# Altium integrated library ST Memory EEPROM Flash.IntLib: 1183 symbols (part 14 of 27)
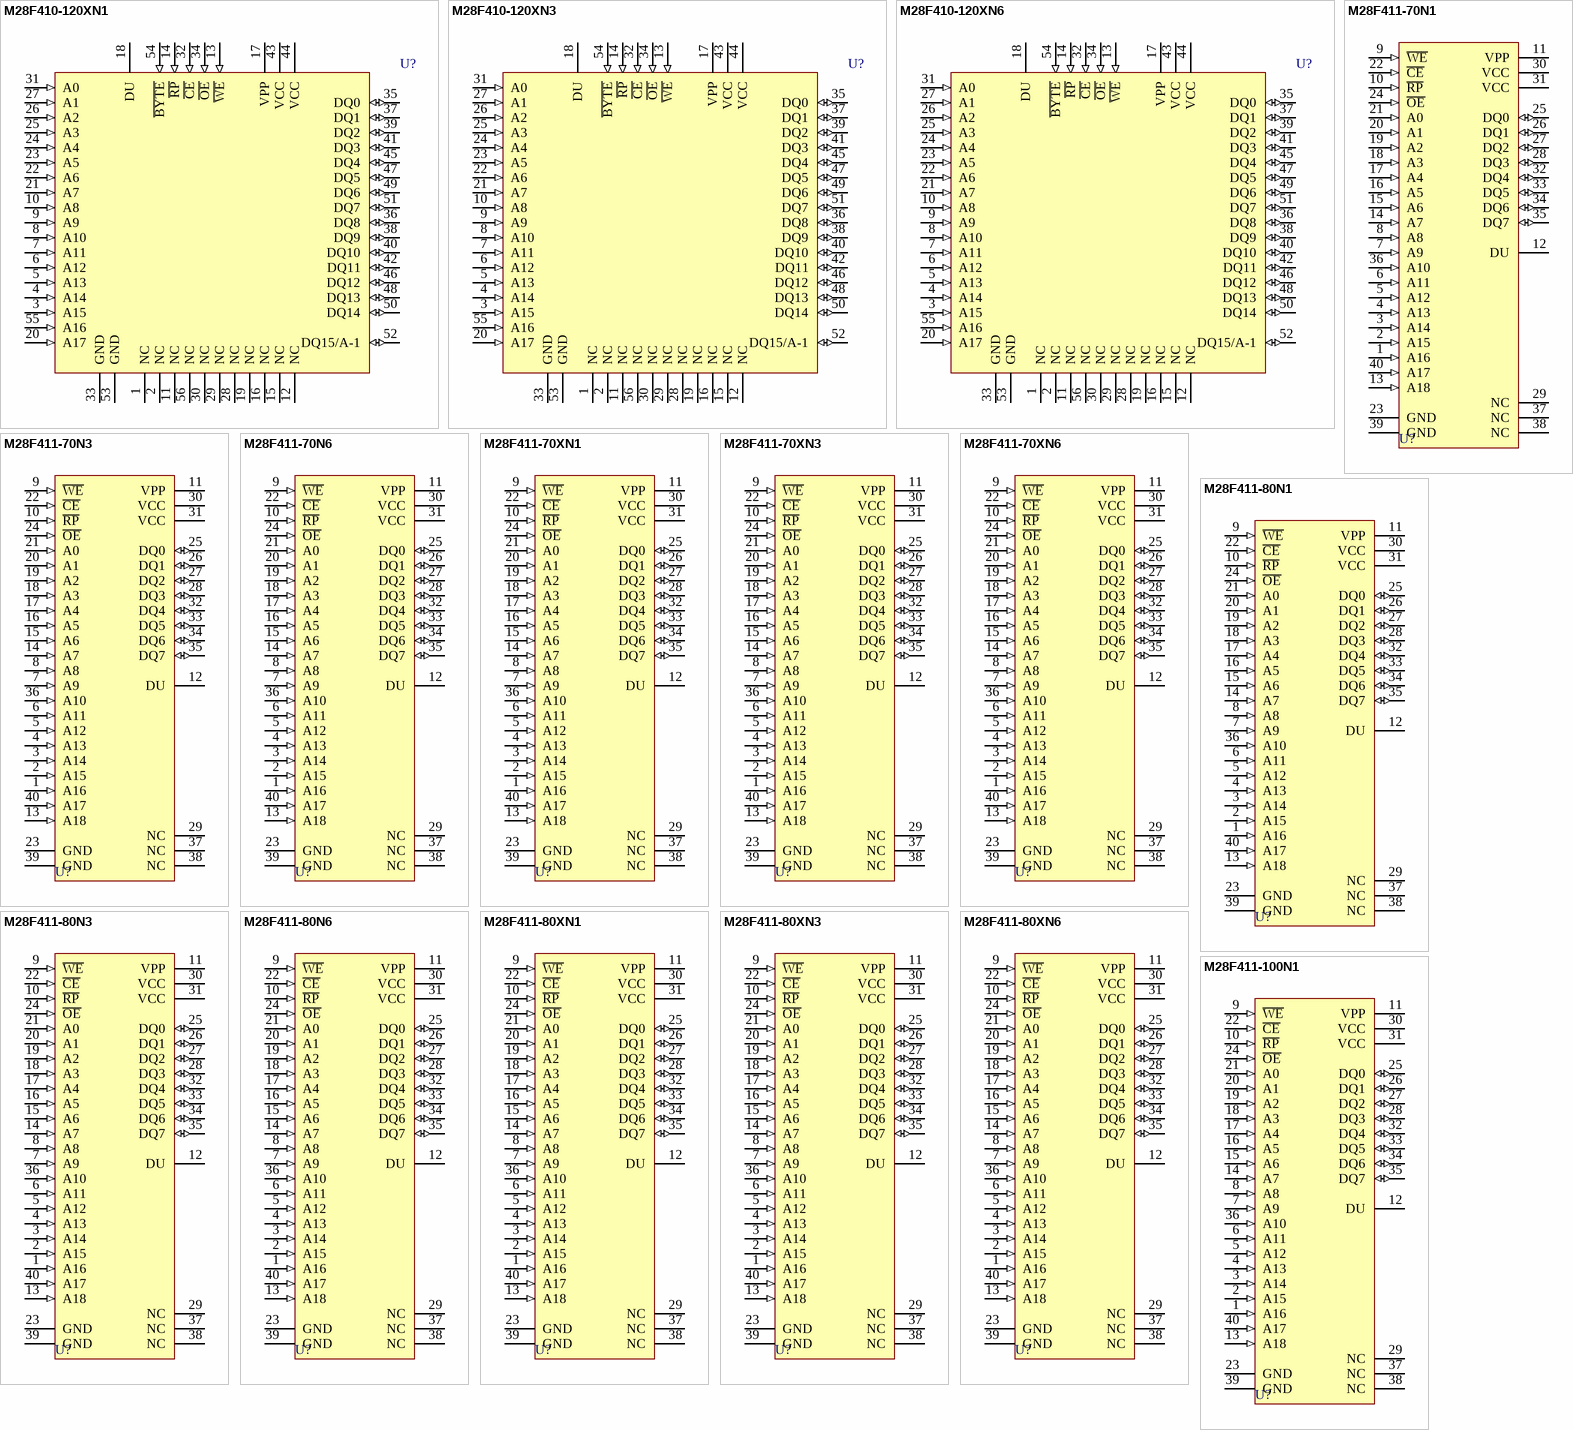
[diagram p94: symbols M28F410-120XN1 to M28F411-100N1]

## M28F411-70XN1
designator U?
4 Mbit (x8, Block Erase) Flash Memory; Note: Do Not Use pin number 12 (DU).; Published: 24-Aug-2001; LatestRevisionDate: 6-Jun-2005; LatestRevisionNote: Stylized 3D Model Added.; DatasheetDocument: Oct-1995; PackageDocument: Jul-1998; PackageReference: TSOP40A; Publisher: Altium Limited; Code_JEDEC: MO-142-CD; ComponentLink1Description: Manufacturer Link; ComponentLink1URL: http://www.st.com/
footprint TSOP40A (Shrink Small Outline, Plastic, Thin; 40 Leads; Body Width 18.4 mm; Pitch 0.5 mm)
3D model TSOP40A (Shrink Small Outline, Plastic, Thin; 40 Leads; Body Width 18.4 mm; Pitch 0.5 mm)
pins: 1 A16 (in), 2 A15 (in), 3 A14 (in), 4 A13 (in), 5 A12 (in), 6 A11 (in), 7 A9 (in), 8 A8 (in), 9 ~{WE} (in), 10 ~{RP} (in), 11 VPP (power), 12 DU, 13 A18 (in), 14 A7 (in), 15 A6 (in), 16 A5 (in), 17 A4 (in), 18 A3 (in), 19 A2 (in), 20 A1 (in), 21 A0 (in), 22 ~{CE} (in), 23 GND (power), 24 ~{OE} (in), 25 DQ0 (io), 26 DQ1 (io), 27 DQ2 (io), 28 DQ3 (io), 29 NC, 30 VCC (power), 31 VCC (power), 32 DQ4 (io), 33 DQ5 (io), 34 DQ6 (io), 35 DQ7 (io), 36 A10 (in), 37 NC, 38 NC, 39 GND (power), 40 A17 (in)

## M28F411-70XN3
designator U?
4 Mbit (x8, Block Erase) Flash Memory; Note: Do Not Use pin number 12 (DU).; Published: 24-Aug-2001; LatestRevisionDate: 6-Jun-2005; LatestRevisionNote: Stylized 3D Model Added.; DatasheetDocument: Oct-1995; PackageDocument: Jul-1998; PackageReference: TSOP40A; Publisher: Altium Limited; Code_JEDEC: MO-142-CD; ComponentLink1Description: Manufacturer Link; ComponentLink1URL: http://www.st.com/
footprint TSOP40A (Shrink Small Outline, Plastic, Thin; 40 Leads; Body Width 18.4 mm; Pitch 0.5 mm)
3D model TSOP40A (Shrink Small Outline, Plastic, Thin; 40 Leads; Body Width 18.4 mm; Pitch 0.5 mm)
pins: 1 A16 (in), 2 A15 (in), 3 A14 (in), 4 A13 (in), 5 A12 (in), 6 A11 (in), 7 A9 (in), 8 A8 (in), 9 ~{WE} (in), 10 ~{RP} (in), 11 VPP (power), 12 DU, 13 A18 (in), 14 A7 (in), 15 A6 (in), 16 A5 (in), 17 A4 (in), 18 A3 (in), 19 A2 (in), 20 A1 (in), 21 A0 (in), 22 ~{CE} (in), 23 GND (power), 24 ~{OE} (in), 25 DQ0 (io), 26 DQ1 (io), 27 DQ2 (io), 28 DQ3 (io), 29 NC, 30 VCC (power), 31 VCC (power), 32 DQ4 (io), 33 DQ5 (io), 34 DQ6 (io), 35 DQ7 (io), 36 A10 (in), 37 NC, 38 NC, 39 GND (power), 40 A17 (in)

## M28F411-70XN6
designator U?
4 Mbit (x8, Block Erase) Flash Memory; Note: Do Not Use pin number 12 (DU).; Published: 24-Aug-2001; LatestRevisionDate: 6-Jun-2005; LatestRevisionNote: Stylized 3D Model Added.; DatasheetDocument: Oct-1995; PackageDocument: Jul-1998; PackageReference: TSOP40A; Publisher: Altium Limited; Code_JEDEC: MO-142-CD; ComponentLink1Description: Manufacturer Link; ComponentLink1URL: http://www.st.com/
footprint TSOP40A (Shrink Small Outline, Plastic, Thin; 40 Leads; Body Width 18.4 mm; Pitch 0.5 mm)
3D model TSOP40A (Shrink Small Outline, Plastic, Thin; 40 Leads; Body Width 18.4 mm; Pitch 0.5 mm)
pins: 1 A16 (in), 2 A15 (in), 3 A14 (in), 4 A13 (in), 5 A12 (in), 6 A11 (in), 7 A9 (in), 8 A8 (in), 9 ~{WE} (in), 10 ~{RP} (in), 11 VPP (power), 12 DU, 13 A18 (in), 14 A7 (in), 15 A6 (in), 16 A5 (in), 17 A4 (in), 18 A3 (in), 19 A2 (in), 20 A1 (in), 21 A0 (in), 22 ~{CE} (in), 23 GND (power), 24 ~{OE} (in), 25 DQ0 (io), 26 DQ1 (io), 27 DQ2 (io), 28 DQ3 (io), 29 NC, 30 VCC (power), 31 VCC (power), 32 DQ4 (io), 33 DQ5 (io), 34 DQ6 (io), 35 DQ7 (io), 36 A10 (in), 37 NC, 38 NC, 39 GND (power), 40 A17 (in)

## M28F411-80N1
designator U?
4 Mbit (x8, Block Erase) Flash Memory; Note: Do Not Use pin number 12 (DU).; Published: 24-Aug-2001; LatestRevisionDate: 6-Jun-2005; LatestRevisionNote: Stylized 3D Model Added.; DatasheetDocument: Oct-1995; PackageDocument: Jul-1998; PackageReference: TSOP40A; Publisher: Altium Limited; Code_JEDEC: MO-142-CD; ComponentLink1Description: Manufacturer Link; ComponentLink1URL: http://www.st.com/
footprint TSOP40A (Shrink Small Outline, Plastic, Thin; 40 Leads; Body Width 18.4 mm; Pitch 0.5 mm)
3D model TSOP40A (Shrink Small Outline, Plastic, Thin; 40 Leads; Body Width 18.4 mm; Pitch 0.5 mm)
pins: 1 A16 (in), 2 A15 (in), 3 A14 (in), 4 A13 (in), 5 A12 (in), 6 A11 (in), 7 A9 (in), 8 A8 (in), 9 ~{WE} (in), 10 ~{RP} (in), 11 VPP (power), 12 DU, 13 A18 (in), 14 A7 (in), 15 A6 (in), 16 A5 (in), 17 A4 (in), 18 A3 (in), 19 A2 (in), 20 A1 (in), 21 A0 (in), 22 ~{CE} (in), 23 GND (power), 24 ~{OE} (in), 25 DQ0 (io), 26 DQ1 (io), 27 DQ2 (io), 28 DQ3 (io), 29 NC, 30 VCC (power), 31 VCC (power), 32 DQ4 (io), 33 DQ5 (io), 34 DQ6 (io), 35 DQ7 (io), 36 A10 (in), 37 NC, 38 NC, 39 GND (power), 40 A17 (in)

## M28F411-80N3
designator U?
4 Mbit (x8, Block Erase) Flash Memory; Note: Do Not Use pin number 12 (DU).; Published: 24-Aug-2001; LatestRevisionDate: 6-Jun-2005; LatestRevisionNote: Stylized 3D Model Added.; DatasheetDocument: Oct-1995; PackageDocument: Jul-1998; PackageReference: TSOP40A; Publisher: Altium Limited; Code_JEDEC: MO-142-CD; ComponentLink1Description: Manufacturer Link; ComponentLink1URL: http://www.st.com/
footprint TSOP40A (Shrink Small Outline, Plastic, Thin; 40 Leads; Body Width 18.4 mm; Pitch 0.5 mm)
3D model TSOP40A (Shrink Small Outline, Plastic, Thin; 40 Leads; Body Width 18.4 mm; Pitch 0.5 mm)
pins: 1 A16 (in), 2 A15 (in), 3 A14 (in), 4 A13 (in), 5 A12 (in), 6 A11 (in), 7 A9 (in), 8 A8 (in), 9 ~{WE} (in), 10 ~{RP} (in), 11 VPP (power), 12 DU, 13 A18 (in), 14 A7 (in), 15 A6 (in), 16 A5 (in), 17 A4 (in), 18 A3 (in), 19 A2 (in), 20 A1 (in), 21 A0 (in), 22 ~{CE} (in), 23 GND (power), 24 ~{OE} (in), 25 DQ0 (io), 26 DQ1 (io), 27 DQ2 (io), 28 DQ3 (io), 29 NC, 30 VCC (power), 31 VCC (power), 32 DQ4 (io), 33 DQ5 (io), 34 DQ6 (io), 35 DQ7 (io), 36 A10 (in), 37 NC, 38 NC, 39 GND (power), 40 A17 (in)

## M28F411-80N6
designator U?
4 Mbit (x8, Block Erase) Flash Memory; Note: Do Not Use pin number 12 (DU).; Published: 24-Aug-2001; LatestRevisionDate: 6-Jun-2005; LatestRevisionNote: Stylized 3D Model Added.; DatasheetDocument: Oct-1995; PackageDocument: Jul-1998; PackageReference: TSOP40A; Publisher: Altium Limited; Code_JEDEC: MO-142-CD; ComponentLink1Description: Manufacturer Link; ComponentLink1URL: http://www.st.com/
footprint TSOP40A (Shrink Small Outline, Plastic, Thin; 40 Leads; Body Width 18.4 mm; Pitch 0.5 mm)
3D model TSOP40A (Shrink Small Outline, Plastic, Thin; 40 Leads; Body Width 18.4 mm; Pitch 0.5 mm)
pins: 1 A16 (in), 2 A15 (in), 3 A14 (in), 4 A13 (in), 5 A12 (in), 6 A11 (in), 7 A9 (in), 8 A8 (in), 9 ~{WE} (in), 10 ~{RP} (in), 11 VPP (power), 12 DU, 13 A18 (in), 14 A7 (in), 15 A6 (in), 16 A5 (in), 17 A4 (in), 18 A3 (in), 19 A2 (in), 20 A1 (in), 21 A0 (in), 22 ~{CE} (in), 23 GND (power), 24 ~{OE} (in), 25 DQ0 (io), 26 DQ1 (io), 27 DQ2 (io), 28 DQ3 (io), 29 NC, 30 VCC (power), 31 VCC (power), 32 DQ4 (io), 33 DQ5 (io), 34 DQ6 (io), 35 DQ7 (io), 36 A10 (in), 37 NC, 38 NC, 39 GND (power), 40 A17 (in)

## M28F411-80XN1
designator U?
4 Mbit (x8, Block Erase) Flash Memory; Note: Do Not Use pin number 12 (DU).; Published: 24-Aug-2001; LatestRevisionDate: 6-Jun-2005; LatestRevisionNote: Stylized 3D Model Added.; DatasheetDocument: Oct-1995; PackageDocument: Jul-1998; PackageReference: TSOP40A; Publisher: Altium Limited; Code_JEDEC: MO-142-CD; ComponentLink1Description: Manufacturer Link; ComponentLink1URL: http://www.st.com/
footprint TSOP40A (Shrink Small Outline, Plastic, Thin; 40 Leads; Body Width 18.4 mm; Pitch 0.5 mm)
3D model TSOP40A (Shrink Small Outline, Plastic, Thin; 40 Leads; Body Width 18.4 mm; Pitch 0.5 mm)
pins: 1 A16 (in), 2 A15 (in), 3 A14 (in), 4 A13 (in), 5 A12 (in), 6 A11 (in), 7 A9 (in), 8 A8 (in), 9 ~{WE} (in), 10 ~{RP} (in), 11 VPP (power), 12 DU, 13 A18 (in), 14 A7 (in), 15 A6 (in), 16 A5 (in), 17 A4 (in), 18 A3 (in), 19 A2 (in), 20 A1 (in), 21 A0 (in), 22 ~{CE} (in), 23 GND (power), 24 ~{OE} (in), 25 DQ0 (io), 26 DQ1 (io), 27 DQ2 (io), 28 DQ3 (io), 29 NC, 30 VCC (power), 31 VCC (power), 32 DQ4 (io), 33 DQ5 (io), 34 DQ6 (io), 35 DQ7 (io), 36 A10 (in), 37 NC, 38 NC, 39 GND (power), 40 A17 (in)

## M28F411-80XN3
designator U?
4 Mbit (x8, Block Erase) Flash Memory; Note: Do Not Use pin number 12 (DU).; Published: 24-Aug-2001; LatestRevisionDate: 6-Jun-2005; LatestRevisionNote: Stylized 3D Model Added.; DatasheetDocument: Oct-1995; PackageDocument: Jul-1998; PackageReference: TSOP40A; Publisher: Altium Limited; Code_JEDEC: MO-142-CD; ComponentLink1Description: Manufacturer Link; ComponentLink1URL: http://www.st.com/
footprint TSOP40A (Shrink Small Outline, Plastic, Thin; 40 Leads; Body Width 18.4 mm; Pitch 0.5 mm)
3D model TSOP40A (Shrink Small Outline, Plastic, Thin; 40 Leads; Body Width 18.4 mm; Pitch 0.5 mm)
pins: 1 A16 (in), 2 A15 (in), 3 A14 (in), 4 A13 (in), 5 A12 (in), 6 A11 (in), 7 A9 (in), 8 A8 (in), 9 ~{WE} (in), 10 ~{RP} (in), 11 VPP (power), 12 DU, 13 A18 (in), 14 A7 (in), 15 A6 (in), 16 A5 (in), 17 A4 (in), 18 A3 (in), 19 A2 (in), 20 A1 (in), 21 A0 (in), 22 ~{CE} (in), 23 GND (power), 24 ~{OE} (in), 25 DQ0 (io), 26 DQ1 (io), 27 DQ2 (io), 28 DQ3 (io), 29 NC, 30 VCC (power), 31 VCC (power), 32 DQ4 (io), 33 DQ5 (io), 34 DQ6 (io), 35 DQ7 (io), 36 A10 (in), 37 NC, 38 NC, 39 GND (power), 40 A17 (in)

## M28F411-80XN6
designator U?
4 Mbit (x8, Block Erase) Flash Memory; Note: Do Not Use pin number 12 (DU).; Published: 24-Aug-2001; LatestRevisionDate: 6-Jun-2005; LatestRevisionNote: Stylized 3D Model Added.; DatasheetDocument: Oct-1995; PackageDocument: Jul-1998; PackageReference: TSOP40A; Publisher: Altium Limited; Code_JEDEC: MO-142-CD; ComponentLink1Description: Manufacturer Link; ComponentLink1URL: http://www.st.com/
footprint TSOP40A (Shrink Small Outline, Plastic, Thin; 40 Leads; Body Width 18.4 mm; Pitch 0.5 mm)
3D model TSOP40A (Shrink Small Outline, Plastic, Thin; 40 Leads; Body Width 18.4 mm; Pitch 0.5 mm)
pins: 1 A16 (in), 2 A15 (in), 3 A14 (in), 4 A13 (in), 5 A12 (in), 6 A11 (in), 7 A9 (in), 8 A8 (in), 9 ~{WE} (in), 10 ~{RP} (in), 11 VPP (power), 12 DU, 13 A18 (in), 14 A7 (in), 15 A6 (in), 16 A5 (in), 17 A4 (in), 18 A3 (in), 19 A2 (in), 20 A1 (in), 21 A0 (in), 22 ~{CE} (in), 23 GND (power), 24 ~{OE} (in), 25 DQ0 (io), 26 DQ1 (io), 27 DQ2 (io), 28 DQ3 (io), 29 NC, 30 VCC (power), 31 VCC (power), 32 DQ4 (io), 33 DQ5 (io), 34 DQ6 (io), 35 DQ7 (io), 36 A10 (in), 37 NC, 38 NC, 39 GND (power), 40 A17 (in)

## M28F411-100N1
designator U?
4 Mbit (x8, Block Erase) Flash Memory; Note: Do Not Use pin number 12 (DU).; Published: 24-Aug-2001; LatestRevisionDate: 6-Jun-2005; LatestRevisionNote: Stylized 3D Model Added.; DatasheetDocument: Oct-1995; PackageDocument: Jul-1998; PackageReference: TSOP40A; Publisher: Altium Limited; Code_JEDEC: MO-142-CD; ComponentLink1Description: Manufacturer Link; ComponentLink1URL: http://www.st.com/
footprint TSOP40A (Shrink Small Outline, Plastic, Thin; 40 Leads; Body Width 18.4 mm; Pitch 0.5 mm)
3D model TSOP40A (Shrink Small Outline, Plastic, Thin; 40 Leads; Body Width 18.4 mm; Pitch 0.5 mm)
pins: 1 A16 (in), 2 A15 (in), 3 A14 (in), 4 A13 (in), 5 A12 (in), 6 A11 (in), 7 A9 (in), 8 A8 (in), 9 ~{WE} (in), 10 ~{RP} (in), 11 VPP (power), 12 DU, 13 A18 (in), 14 A7 (in), 15 A6 (in), 16 A5 (in), 17 A4 (in), 18 A3 (in), 19 A2 (in), 20 A1 (in), 21 A0 (in), 22 ~{CE} (in), 23 GND (power), 24 ~{OE} (in), 25 DQ0 (io), 26 DQ1 (io), 27 DQ2 (io), 28 DQ3 (io), 29 NC, 30 VCC (power), 31 VCC (power), 32 DQ4 (io), 33 DQ5 (io), 34 DQ6 (io), 35 DQ7 (io), 36 A10 (in), 37 NC, 38 NC, 39 GND (power), 40 A17 (in)

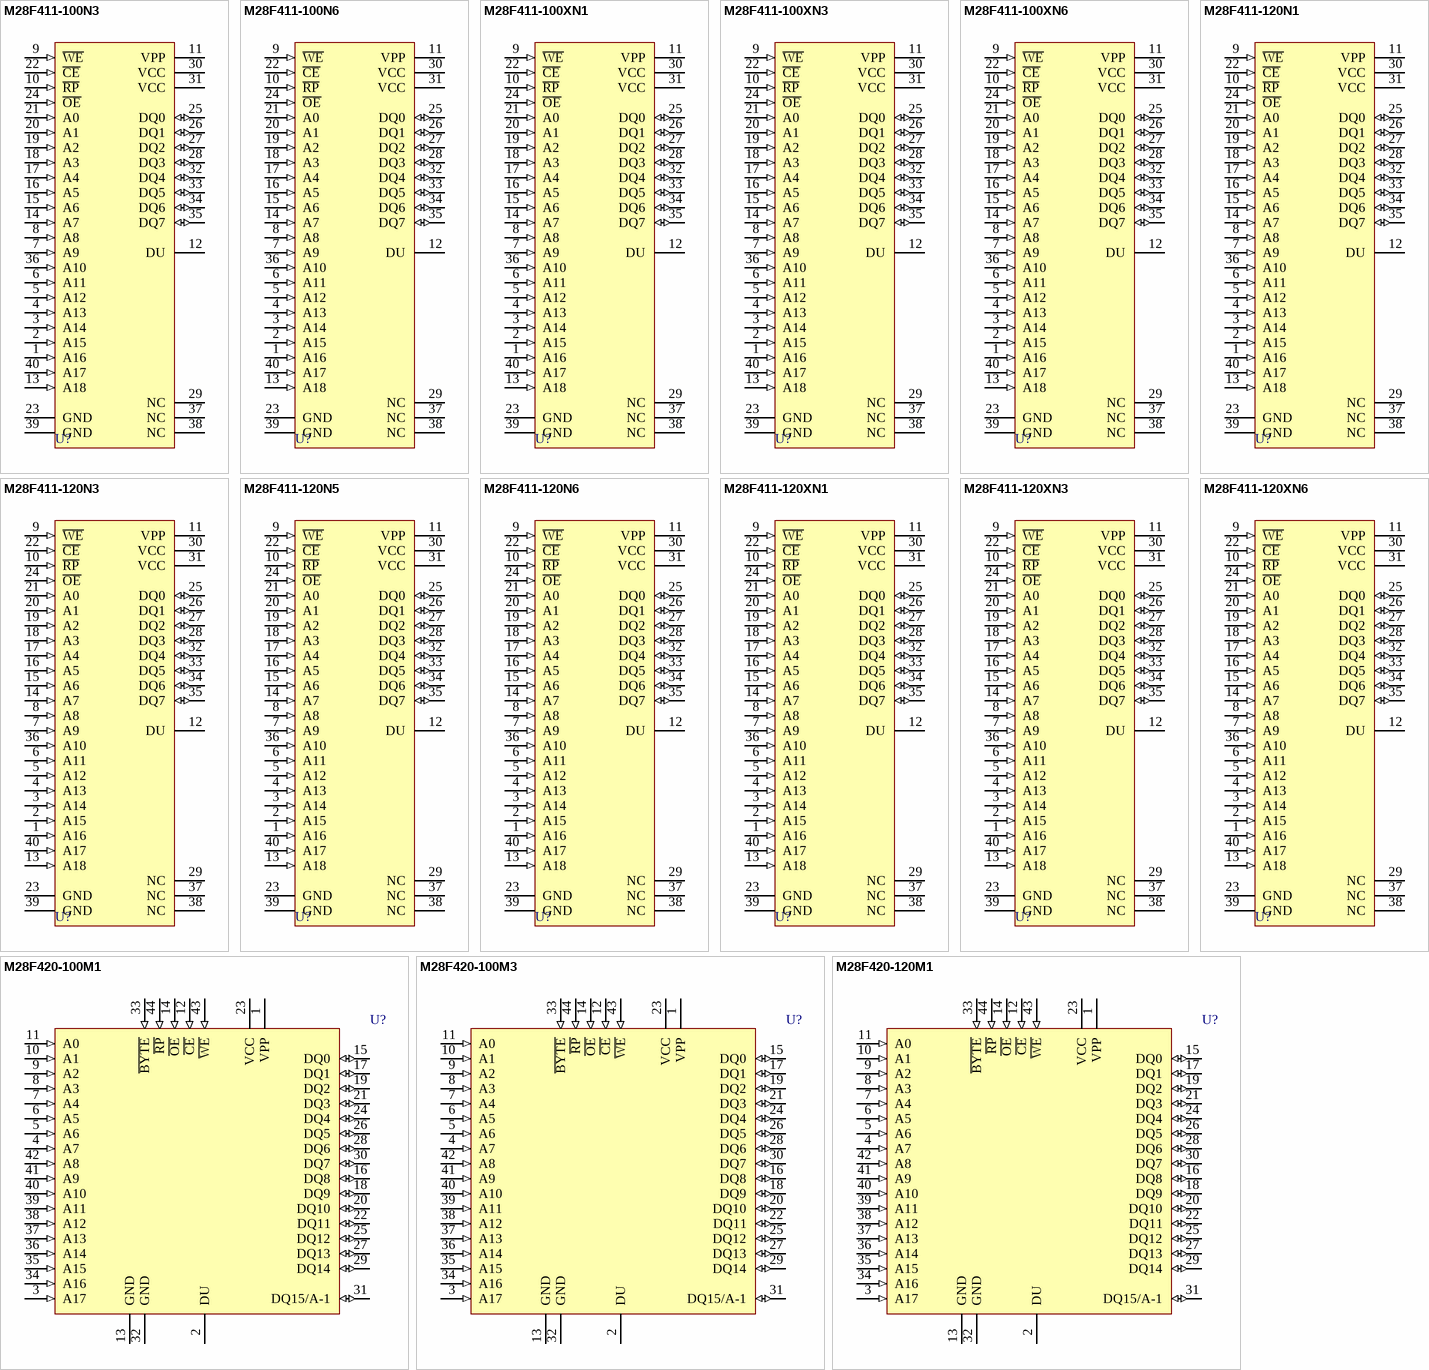
[diagram p38: symbols M28F411-100N3 to M28F420-120M1]

## M28F411-100N3
designator U?
4 Mbit (x8, Block Erase) Flash Memory; Note: Do Not Use pin number 12 (DU).; Published: 24-Aug-2001; LatestRevisionDate: 6-Jun-2005; LatestRevisionNote: Stylized 3D Model Added.; DatasheetDocument: Oct-1995; PackageDocument: Jul-1998; PackageReference: TSOP40A; Publisher: Altium Limited; Code_JEDEC: MO-142-CD; ComponentLink1Description: Manufacturer Link; ComponentLink1URL: http://www.st.com/
footprint TSOP40A (Shrink Small Outline, Plastic, Thin; 40 Leads; Body Width 18.4 mm; Pitch 0.5 mm)
3D model TSOP40A (Shrink Small Outline, Plastic, Thin; 40 Leads; Body Width 18.4 mm; Pitch 0.5 mm)
pins: 1 A16 (in), 2 A15 (in), 3 A14 (in), 4 A13 (in), 5 A12 (in), 6 A11 (in), 7 A9 (in), 8 A8 (in), 9 ~{WE} (in), 10 ~{RP} (in), 11 VPP (power), 12 DU, 13 A18 (in), 14 A7 (in), 15 A6 (in), 16 A5 (in), 17 A4 (in), 18 A3 (in), 19 A2 (in), 20 A1 (in), 21 A0 (in), 22 ~{CE} (in), 23 GND (power), 24 ~{OE} (in), 25 DQ0 (io), 26 DQ1 (io), 27 DQ2 (io), 28 DQ3 (io), 29 NC, 30 VCC (power), 31 VCC (power), 32 DQ4 (io), 33 DQ5 (io), 34 DQ6 (io), 35 DQ7 (io), 36 A10 (in), 37 NC, 38 NC, 39 GND (power), 40 A17 (in)

## M28F411-100N6
designator U?
4 Mbit (x8, Block Erase) Flash Memory; Note: Do Not Use pin number 12 (DU).; Published: 24-Aug-2001; LatestRevisionDate: 6-Jun-2005; LatestRevisionNote: Stylized 3D Model Added.; DatasheetDocument: Oct-1995; PackageDocument: Jul-1998; PackageReference: TSOP40A; Publisher: Altium Limited; Code_JEDEC: MO-142-CD; ComponentLink1Description: Manufacturer Link; ComponentLink1URL: http://www.st.com/
footprint TSOP40A (Shrink Small Outline, Plastic, Thin; 40 Leads; Body Width 18.4 mm; Pitch 0.5 mm)
3D model TSOP40A (Shrink Small Outline, Plastic, Thin; 40 Leads; Body Width 18.4 mm; Pitch 0.5 mm)
pins: 1 A16 (in), 2 A15 (in), 3 A14 (in), 4 A13 (in), 5 A12 (in), 6 A11 (in), 7 A9 (in), 8 A8 (in), 9 ~{WE} (in), 10 ~{RP} (in), 11 VPP (power), 12 DU, 13 A18 (in), 14 A7 (in), 15 A6 (in), 16 A5 (in), 17 A4 (in), 18 A3 (in), 19 A2 (in), 20 A1 (in), 21 A0 (in), 22 ~{CE} (in), 23 GND (power), 24 ~{OE} (in), 25 DQ0 (io), 26 DQ1 (io), 27 DQ2 (io), 28 DQ3 (io), 29 NC, 30 VCC (power), 31 VCC (power), 32 DQ4 (io), 33 DQ5 (io), 34 DQ6 (io), 35 DQ7 (io), 36 A10 (in), 37 NC, 38 NC, 39 GND (power), 40 A17 (in)

## M28F411-100XN1
designator U?
4 Mbit (x8, Block Erase) Flash Memory; Note: Do Not Use pin number 12 (DU).; Published: 24-Aug-2001; LatestRevisionDate: 6-Jun-2005; LatestRevisionNote: Stylized 3D Model Added.; DatasheetDocument: Oct-1995; PackageDocument: Jul-1998; PackageReference: TSOP40A; Publisher: Altium Limited; Code_JEDEC: MO-142-CD; ComponentLink1Description: Manufacturer Link; ComponentLink1URL: http://www.st.com/
footprint TSOP40A (Shrink Small Outline, Plastic, Thin; 40 Leads; Body Width 18.4 mm; Pitch 0.5 mm)
3D model TSOP40A (Shrink Small Outline, Plastic, Thin; 40 Leads; Body Width 18.4 mm; Pitch 0.5 mm)
pins: 1 A16 (in), 2 A15 (in), 3 A14 (in), 4 A13 (in), 5 A12 (in), 6 A11 (in), 7 A9 (in), 8 A8 (in), 9 ~{WE} (in), 10 ~{RP} (in), 11 VPP (power), 12 DU, 13 A18 (in), 14 A7 (in), 15 A6 (in), 16 A5 (in), 17 A4 (in), 18 A3 (in), 19 A2 (in), 20 A1 (in), 21 A0 (in), 22 ~{CE} (in), 23 GND (power), 24 ~{OE} (in), 25 DQ0 (io), 26 DQ1 (io), 27 DQ2 (io), 28 DQ3 (io), 29 NC, 30 VCC (power), 31 VCC (power), 32 DQ4 (io), 33 DQ5 (io), 34 DQ6 (io), 35 DQ7 (io), 36 A10 (in), 37 NC, 38 NC, 39 GND (power), 40 A17 (in)

## M28F411-100XN3
designator U?
4 Mbit (x8, Block Erase) Flash Memory; Note: Do Not Use pin number 12 (DU).; Published: 24-Aug-2001; LatestRevisionDate: 6-Jun-2005; LatestRevisionNote: Stylized 3D Model Added.; DatasheetDocument: Oct-1995; PackageDocument: Jul-1998; PackageReference: TSOP40A; Publisher: Altium Limited; Code_JEDEC: MO-142-CD; ComponentLink1Description: Manufacturer Link; ComponentLink1URL: http://www.st.com/
footprint TSOP40A (Shrink Small Outline, Plastic, Thin; 40 Leads; Body Width 18.4 mm; Pitch 0.5 mm)
3D model TSOP40A (Shrink Small Outline, Plastic, Thin; 40 Leads; Body Width 18.4 mm; Pitch 0.5 mm)
pins: 1 A16 (in), 2 A15 (in), 3 A14 (in), 4 A13 (in), 5 A12 (in), 6 A11 (in), 7 A9 (in), 8 A8 (in), 9 ~{WE} (in), 10 ~{RP} (in), 11 VPP (power), 12 DU, 13 A18 (in), 14 A7 (in), 15 A6 (in), 16 A5 (in), 17 A4 (in), 18 A3 (in), 19 A2 (in), 20 A1 (in), 21 A0 (in), 22 ~{CE} (in), 23 GND (power), 24 ~{OE} (in), 25 DQ0 (io), 26 DQ1 (io), 27 DQ2 (io), 28 DQ3 (io), 29 NC, 30 VCC (power), 31 VCC (power), 32 DQ4 (io), 33 DQ5 (io), 34 DQ6 (io), 35 DQ7 (io), 36 A10 (in), 37 NC, 38 NC, 39 GND (power), 40 A17 (in)

## M28F411-100XN6
designator U?
4 Mbit (x8, Block Erase) Flash Memory; Note: Do Not Use pin number 12 (DU).; Published: 24-Aug-2001; LatestRevisionDate: 6-Jun-2005; LatestRevisionNote: Stylized 3D Model Added.; DatasheetDocument: Oct-1995; PackageDocument: Jul-1998; PackageReference: TSOP40A; Publisher: Altium Limited; Code_JEDEC: MO-142-CD; ComponentLink1Description: Manufacturer Link; ComponentLink1URL: http://www.st.com/
footprint TSOP40A (Shrink Small Outline, Plastic, Thin; 40 Leads; Body Width 18.4 mm; Pitch 0.5 mm)
3D model TSOP40A (Shrink Small Outline, Plastic, Thin; 40 Leads; Body Width 18.4 mm; Pitch 0.5 mm)
pins: 1 A16 (in), 2 A15 (in), 3 A14 (in), 4 A13 (in), 5 A12 (in), 6 A11 (in), 7 A9 (in), 8 A8 (in), 9 ~{WE} (in), 10 ~{RP} (in), 11 VPP (power), 12 DU, 13 A18 (in), 14 A7 (in), 15 A6 (in), 16 A5 (in), 17 A4 (in), 18 A3 (in), 19 A2 (in), 20 A1 (in), 21 A0 (in), 22 ~{CE} (in), 23 GND (power), 24 ~{OE} (in), 25 DQ0 (io), 26 DQ1 (io), 27 DQ2 (io), 28 DQ3 (io), 29 NC, 30 VCC (power), 31 VCC (power), 32 DQ4 (io), 33 DQ5 (io), 34 DQ6 (io), 35 DQ7 (io), 36 A10 (in), 37 NC, 38 NC, 39 GND (power), 40 A17 (in)

## M28F411-120N1
designator U?
4 Mbit (x8, Block Erase) Flash Memory; Note: Do Not Use pin number 12 (DU).; Published: 24-Aug-2001; LatestRevisionDate: 6-Jun-2005; LatestRevisionNote: Stylized 3D Model Added.; DatasheetDocument: Oct-1995; PackageDocument: Jul-1998; PackageReference: TSOP40A; Publisher: Altium Limited; Code_JEDEC: MO-142-CD; ComponentLink1Description: Manufacturer Link; ComponentLink1URL: http://www.st.com/
footprint TSOP40A (Shrink Small Outline, Plastic, Thin; 40 Leads; Body Width 18.4 mm; Pitch 0.5 mm)
3D model TSOP40A (Shrink Small Outline, Plastic, Thin; 40 Leads; Body Width 18.4 mm; Pitch 0.5 mm)
pins: 1 A16 (in), 2 A15 (in), 3 A14 (in), 4 A13 (in), 5 A12 (in), 6 A11 (in), 7 A9 (in), 8 A8 (in), 9 ~{WE} (in), 10 ~{RP} (in), 11 VPP (power), 12 DU, 13 A18 (in), 14 A7 (in), 15 A6 (in), 16 A5 (in), 17 A4 (in), 18 A3 (in), 19 A2 (in), 20 A1 (in), 21 A0 (in), 22 ~{CE} (in), 23 GND (power), 24 ~{OE} (in), 25 DQ0 (io), 26 DQ1 (io), 27 DQ2 (io), 28 DQ3 (io), 29 NC, 30 VCC (power), 31 VCC (power), 32 DQ4 (io), 33 DQ5 (io), 34 DQ6 (io), 35 DQ7 (io), 36 A10 (in), 37 NC, 38 NC, 39 GND (power), 40 A17 (in)

## M28F411-120N3
designator U?
4 Mbit (x8, Block Erase) Flash Memory; Note: Do Not Use pin number 12 (DU).; Published: 24-Aug-2001; LatestRevisionDate: 6-Jun-2005; LatestRevisionNote: Stylized 3D Model Added.; DatasheetDocument: Oct-1995; PackageDocument: Jul-1998; PackageReference: TSOP40A; Publisher: Altium Limited; Code_JEDEC: MO-142-CD; ComponentLink1Description: Manufacturer Link; ComponentLink1URL: http://www.st.com/
footprint TSOP40A (Shrink Small Outline, Plastic, Thin; 40 Leads; Body Width 18.4 mm; Pitch 0.5 mm)
3D model TSOP40A (Shrink Small Outline, Plastic, Thin; 40 Leads; Body Width 18.4 mm; Pitch 0.5 mm)
pins: 1 A16 (in), 2 A15 (in), 3 A14 (in), 4 A13 (in), 5 A12 (in), 6 A11 (in), 7 A9 (in), 8 A8 (in), 9 ~{WE} (in), 10 ~{RP} (in), 11 VPP (power), 12 DU, 13 A18 (in), 14 A7 (in), 15 A6 (in), 16 A5 (in), 17 A4 (in), 18 A3 (in), 19 A2 (in), 20 A1 (in), 21 A0 (in), 22 ~{CE} (in), 23 GND (power), 24 ~{OE} (in), 25 DQ0 (io), 26 DQ1 (io), 27 DQ2 (io), 28 DQ3 (io), 29 NC, 30 VCC (power), 31 VCC (power), 32 DQ4 (io), 33 DQ5 (io), 34 DQ6 (io), 35 DQ7 (io), 36 A10 (in), 37 NC, 38 NC, 39 GND (power), 40 A17 (in)

## M28F411-120N5
designator U?
4 Mbit (x8, Block Erase) Flash Memory; Note: Do Not Use pin number 12 (DU).; Published: 24-Aug-2001; LatestRevisionDate: 6-Jun-2005; LatestRevisionNote: Stylized 3D Model Added.; DatasheetDocument: Oct-1995; PackageDocument: Jul-1998; PackageReference: TSOP40A; Publisher: Altium Limited; Code_JEDEC: MO-142-CD; ComponentLink1Description: Manufacturer Link; ComponentLink1URL: http://www.st.com/
footprint TSOP40A (Shrink Small Outline, Plastic, Thin; 40 Leads; Body Width 18.4 mm; Pitch 0.5 mm)
3D model TSOP40A (Shrink Small Outline, Plastic, Thin; 40 Leads; Body Width 18.4 mm; Pitch 0.5 mm)
pins: 1 A16 (in), 2 A15 (in), 3 A14 (in), 4 A13 (in), 5 A12 (in), 6 A11 (in), 7 A9 (in), 8 A8 (in), 9 ~{WE} (in), 10 ~{RP} (in), 11 VPP (power), 12 DU, 13 A18 (in), 14 A7 (in), 15 A6 (in), 16 A5 (in), 17 A4 (in), 18 A3 (in), 19 A2 (in), 20 A1 (in), 21 A0 (in), 22 ~{CE} (in), 23 GND (power), 24 ~{OE} (in), 25 DQ0 (io), 26 DQ1 (io), 27 DQ2 (io), 28 DQ3 (io), 29 NC, 30 VCC (power), 31 VCC (power), 32 DQ4 (io), 33 DQ5 (io), 34 DQ6 (io), 35 DQ7 (io), 36 A10 (in), 37 NC, 38 NC, 39 GND (power), 40 A17 (in)

## M28F411-120N6
designator U?
4 Mbit (x8, Block Erase) Flash Memory; Note: Do Not Use pin number 12 (DU).; Published: 24-Aug-2001; LatestRevisionDate: 6-Jun-2005; LatestRevisionNote: Stylized 3D Model Added.; DatasheetDocument: Oct-1995; PackageDocument: Jul-1998; PackageReference: TSOP40A; Publisher: Altium Limited; Code_JEDEC: MO-142-CD; ComponentLink1Description: Manufacturer Link; ComponentLink1URL: http://www.st.com/
footprint TSOP40A (Shrink Small Outline, Plastic, Thin; 40 Leads; Body Width 18.4 mm; Pitch 0.5 mm)
3D model TSOP40A (Shrink Small Outline, Plastic, Thin; 40 Leads; Body Width 18.4 mm; Pitch 0.5 mm)
pins: 1 A16 (in), 2 A15 (in), 3 A14 (in), 4 A13 (in), 5 A12 (in), 6 A11 (in), 7 A9 (in), 8 A8 (in), 9 ~{WE} (in), 10 ~{RP} (in), 11 VPP (power), 12 DU, 13 A18 (in), 14 A7 (in), 15 A6 (in), 16 A5 (in), 17 A4 (in), 18 A3 (in), 19 A2 (in), 20 A1 (in), 21 A0 (in), 22 ~{CE} (in), 23 GND (power), 24 ~{OE} (in), 25 DQ0 (io), 26 DQ1 (io), 27 DQ2 (io), 28 DQ3 (io), 29 NC, 30 VCC (power), 31 VCC (power), 32 DQ4 (io), 33 DQ5 (io), 34 DQ6 (io), 35 DQ7 (io), 36 A10 (in), 37 NC, 38 NC, 39 GND (power), 40 A17 (in)

## M28F411-120XN1
designator U?
4 Mbit (x8, Block Erase) Flash Memory; Note: Do Not Use pin number 12 (DU).; Published: 24-Aug-2001; LatestRevisionDate: 6-Jun-2005; LatestRevisionNote: Stylized 3D Model Added.; DatasheetDocument: Oct-1995; PackageDocument: Jul-1998; PackageReference: TSOP40A; Publisher: Altium Limited; Code_JEDEC: MO-142-CD; ComponentLink1Description: Manufacturer Link; ComponentLink1URL: http://www.st.com/
footprint TSOP40A (Shrink Small Outline, Plastic, Thin; 40 Leads; Body Width 18.4 mm; Pitch 0.5 mm)
3D model TSOP40A (Shrink Small Outline, Plastic, Thin; 40 Leads; Body Width 18.4 mm; Pitch 0.5 mm)
pins: 1 A16 (in), 2 A15 (in), 3 A14 (in), 4 A13 (in), 5 A12 (in), 6 A11 (in), 7 A9 (in), 8 A8 (in), 9 ~{WE} (in), 10 ~{RP} (in), 11 VPP (power), 12 DU, 13 A18 (in), 14 A7 (in), 15 A6 (in), 16 A5 (in), 17 A4 (in), 18 A3 (in), 19 A2 (in), 20 A1 (in), 21 A0 (in), 22 ~{CE} (in), 23 GND (power), 24 ~{OE} (in), 25 DQ0 (io), 26 DQ1 (io), 27 DQ2 (io), 28 DQ3 (io), 29 NC, 30 VCC (power), 31 VCC (power), 32 DQ4 (io), 33 DQ5 (io), 34 DQ6 (io), 35 DQ7 (io), 36 A10 (in), 37 NC, 38 NC, 39 GND (power), 40 A17 (in)

## M28F411-120XN3
designator U?
4 Mbit (x8, Block Erase) Flash Memory; Note: Do Not Use pin number 12 (DU).; Published: 24-Aug-2001; LatestRevisionDate: 6-Jun-2005; LatestRevisionNote: Stylized 3D Model Added.; DatasheetDocument: Oct-1995; PackageDocument: Jul-1998; PackageReference: TSOP40A; Publisher: Altium Limited; Code_JEDEC: MO-142-CD; ComponentLink1Description: Manufacturer Link; ComponentLink1URL: http://www.st.com/
footprint TSOP40A (Shrink Small Outline, Plastic, Thin; 40 Leads; Body Width 18.4 mm; Pitch 0.5 mm)
3D model TSOP40A (Shrink Small Outline, Plastic, Thin; 40 Leads; Body Width 18.4 mm; Pitch 0.5 mm)
pins: 1 A16 (in), 2 A15 (in), 3 A14 (in), 4 A13 (in), 5 A12 (in), 6 A11 (in), 7 A9 (in), 8 A8 (in), 9 ~{WE} (in), 10 ~{RP} (in), 11 VPP (power), 12 DU, 13 A18 (in), 14 A7 (in), 15 A6 (in), 16 A5 (in), 17 A4 (in), 18 A3 (in), 19 A2 (in), 20 A1 (in), 21 A0 (in), 22 ~{CE} (in), 23 GND (power), 24 ~{OE} (in), 25 DQ0 (io), 26 DQ1 (io), 27 DQ2 (io), 28 DQ3 (io), 29 NC, 30 VCC (power), 31 VCC (power), 32 DQ4 (io), 33 DQ5 (io), 34 DQ6 (io), 35 DQ7 (io), 36 A10 (in), 37 NC, 38 NC, 39 GND (power), 40 A17 (in)

## M28F411-120XN6
designator U?
4 Mbit (x8, Block Erase) Flash Memory; Note: Do Not Use pin number 12 (DU).; Published: 24-Aug-2001; LatestRevisionDate: 6-Jun-2005; LatestRevisionNote: Stylized 3D Model Added.; DatasheetDocument: Oct-1995; PackageDocument: Jul-1998; PackageReference: TSOP40A; Publisher: Altium Limited; Code_JEDEC: MO-142-CD; ComponentLink1Description: Manufacturer Link; ComponentLink1URL: http://www.st.com/
footprint TSOP40A (Shrink Small Outline, Plastic, Thin; 40 Leads; Body Width 18.4 mm; Pitch 0.5 mm)
3D model TSOP40A (Shrink Small Outline, Plastic, Thin; 40 Leads; Body Width 18.4 mm; Pitch 0.5 mm)
pins: 1 A16 (in), 2 A15 (in), 3 A14 (in), 4 A13 (in), 5 A12 (in), 6 A11 (in), 7 A9 (in), 8 A8 (in), 9 ~{WE} (in), 10 ~{RP} (in), 11 VPP (power), 12 DU, 13 A18 (in), 14 A7 (in), 15 A6 (in), 16 A5 (in), 17 A4 (in), 18 A3 (in), 19 A2 (in), 20 A1 (in), 21 A0 (in), 22 ~{CE} (in), 23 GND (power), 24 ~{OE} (in), 25 DQ0 (io), 26 DQ1 (io), 27 DQ2 (io), 28 DQ3 (io), 29 NC, 30 VCC (power), 31 VCC (power), 32 DQ4 (io), 33 DQ5 (io), 34 DQ6 (io), 35 DQ7 (io), 36 A10 (in), 37 NC, 38 NC, 39 GND (power), 40 A17 (in)

## M28F420-100M1
designator U?
4 Mbit (x8 or x16, Block Erase) Flash Memory; Note: Do Not Use pin number 2 (DU).; Published: 24-Aug-2001; LatestRevisionDate: 6-Jun-2005; LatestRevisionNote: Stylized 3D Model Added.; DatasheetDocument: Mar-1995; PackageReference: SO44; Publisher: Altium Limited; ComponentLink1Description: Manufacturer Link; ComponentLink1URL: http://www.st.com/
footprint SO44 (Small Outline, Plastic; 44 Leads; Body Width 13.3 mm; Pitch 1.27 mm)
3D model SO44 (Small Outline, Plastic; 44 Leads; Body Width 13.3 mm; Pitch 1.27 mm)
pins: 1 VPP (power), 2 DU, 3 A17 (in), 4 A7 (in), 5 A6 (in), 6 A5 (in), 7 A4 (in), 8 A3 (in), 9 A2 (in), 10 A1 (in), 11 A0 (in), 12 ~{CE} (in), 13 GND (power), 14 ~{OE} (in), 15 DQ0 (io), 16 DQ8 (io), 17 DQ1 (io), 18 DQ9 (io), 19 DQ2 (io), 20 DQ10 (io), 21 DQ3 (io), 22 DQ11 (io), 23 VCC (power), 24 DQ4 (io), 25 DQ12 (io), 26 DQ5 (io), 27 DQ13 (io), 28 DQ6 (io), 29 DQ14 (io), 30 DQ7 (io), 31 DQ15/A-1 (io), 32 GND (power), 33 ~{BYTE} (in), 34 A16 (in), 35 A15 (in), 36 A14 (in), 37 A13 (in), 38 A12 (in), 39 A11 (in), 40 A10 (in), 41 A9 (in), 42 A8 (in), 43 ~{WE} (in), 44 ~{RP} (in)

## M28F420-100M3
designator U?
4 Mbit (x8 or x16, Block Erase) Flash Memory; Note: Do Not Use pin number 2 (DU).; Published: 24-Aug-2001; LatestRevisionDate: 6-Jun-2005; LatestRevisionNote: Stylized 3D Model Added.; DatasheetDocument: Mar-1995; PackageReference: SO44; Publisher: Altium Limited; ComponentLink1Description: Manufacturer Link; ComponentLink1URL: http://www.st.com/
footprint SO44 (Small Outline, Plastic; 44 Leads; Body Width 13.3 mm; Pitch 1.27 mm)
3D model SO44 (Small Outline, Plastic; 44 Leads; Body Width 13.3 mm; Pitch 1.27 mm)
pins: 1 VPP (power), 2 DU, 3 A17 (in), 4 A7 (in), 5 A6 (in), 6 A5 (in), 7 A4 (in), 8 A3 (in), 9 A2 (in), 10 A1 (in), 11 A0 (in), 12 ~{CE} (in), 13 GND (power), 14 ~{OE} (in), 15 DQ0 (io), 16 DQ8 (io), 17 DQ1 (io), 18 DQ9 (io), 19 DQ2 (io), 20 DQ10 (io), 21 DQ3 (io), 22 DQ11 (io), 23 VCC (power), 24 DQ4 (io), 25 DQ12 (io), 26 DQ5 (io), 27 DQ13 (io), 28 DQ6 (io), 29 DQ14 (io), 30 DQ7 (io), 31 DQ15/A-1 (io), 32 GND (power), 33 ~{BYTE} (in), 34 A16 (in), 35 A15 (in), 36 A14 (in), 37 A13 (in), 38 A12 (in), 39 A11 (in), 40 A10 (in), 41 A9 (in), 42 A8 (in), 43 ~{WE} (in), 44 ~{RP} (in)

## M28F420-120M1
designator U?
4 Mbit (x8 or x16, Block Erase) Flash Memory; Note: Do Not Use pin number 2 (DU).; Published: 24-Aug-2001; LatestRevisionDate: 6-Jun-2005; LatestRevisionNote: Stylized 3D Model Added.; DatasheetDocument: Mar-1995; PackageReference: SO44; Publisher: Altium Limited; ComponentLink1Description: Manufacturer Link; ComponentLink1URL: http://www.st.com/
footprint SO44 (Small Outline, Plastic; 44 Leads; Body Width 13.3 mm; Pitch 1.27 mm)
3D model SO44 (Small Outline, Plastic; 44 Leads; Body Width 13.3 mm; Pitch 1.27 mm)
pins: 1 VPP (power), 2 DU, 3 A17 (in), 4 A7 (in), 5 A6 (in), 6 A5 (in), 7 A4 (in), 8 A3 (in), 9 A2 (in), 10 A1 (in), 11 A0 (in), 12 ~{CE} (in), 13 GND (power), 14 ~{OE} (in), 15 DQ0 (io), 16 DQ8 (io), 17 DQ1 (io), 18 DQ9 (io), 19 DQ2 (io), 20 DQ10 (io), 21 DQ3 (io), 22 DQ11 (io), 23 VCC (power), 24 DQ4 (io), 25 DQ12 (io), 26 DQ5 (io), 27 DQ13 (io), 28 DQ6 (io), 29 DQ14 (io), 30 DQ7 (io), 31 DQ15/A-1 (io), 32 GND (power), 33 ~{BYTE} (in), 34 A16 (in), 35 A15 (in), 36 A14 (in), 37 A13 (in), 38 A12 (in), 39 A11 (in), 40 A10 (in), 41 A9 (in), 42 A8 (in), 43 ~{WE} (in), 44 ~{RP} (in)

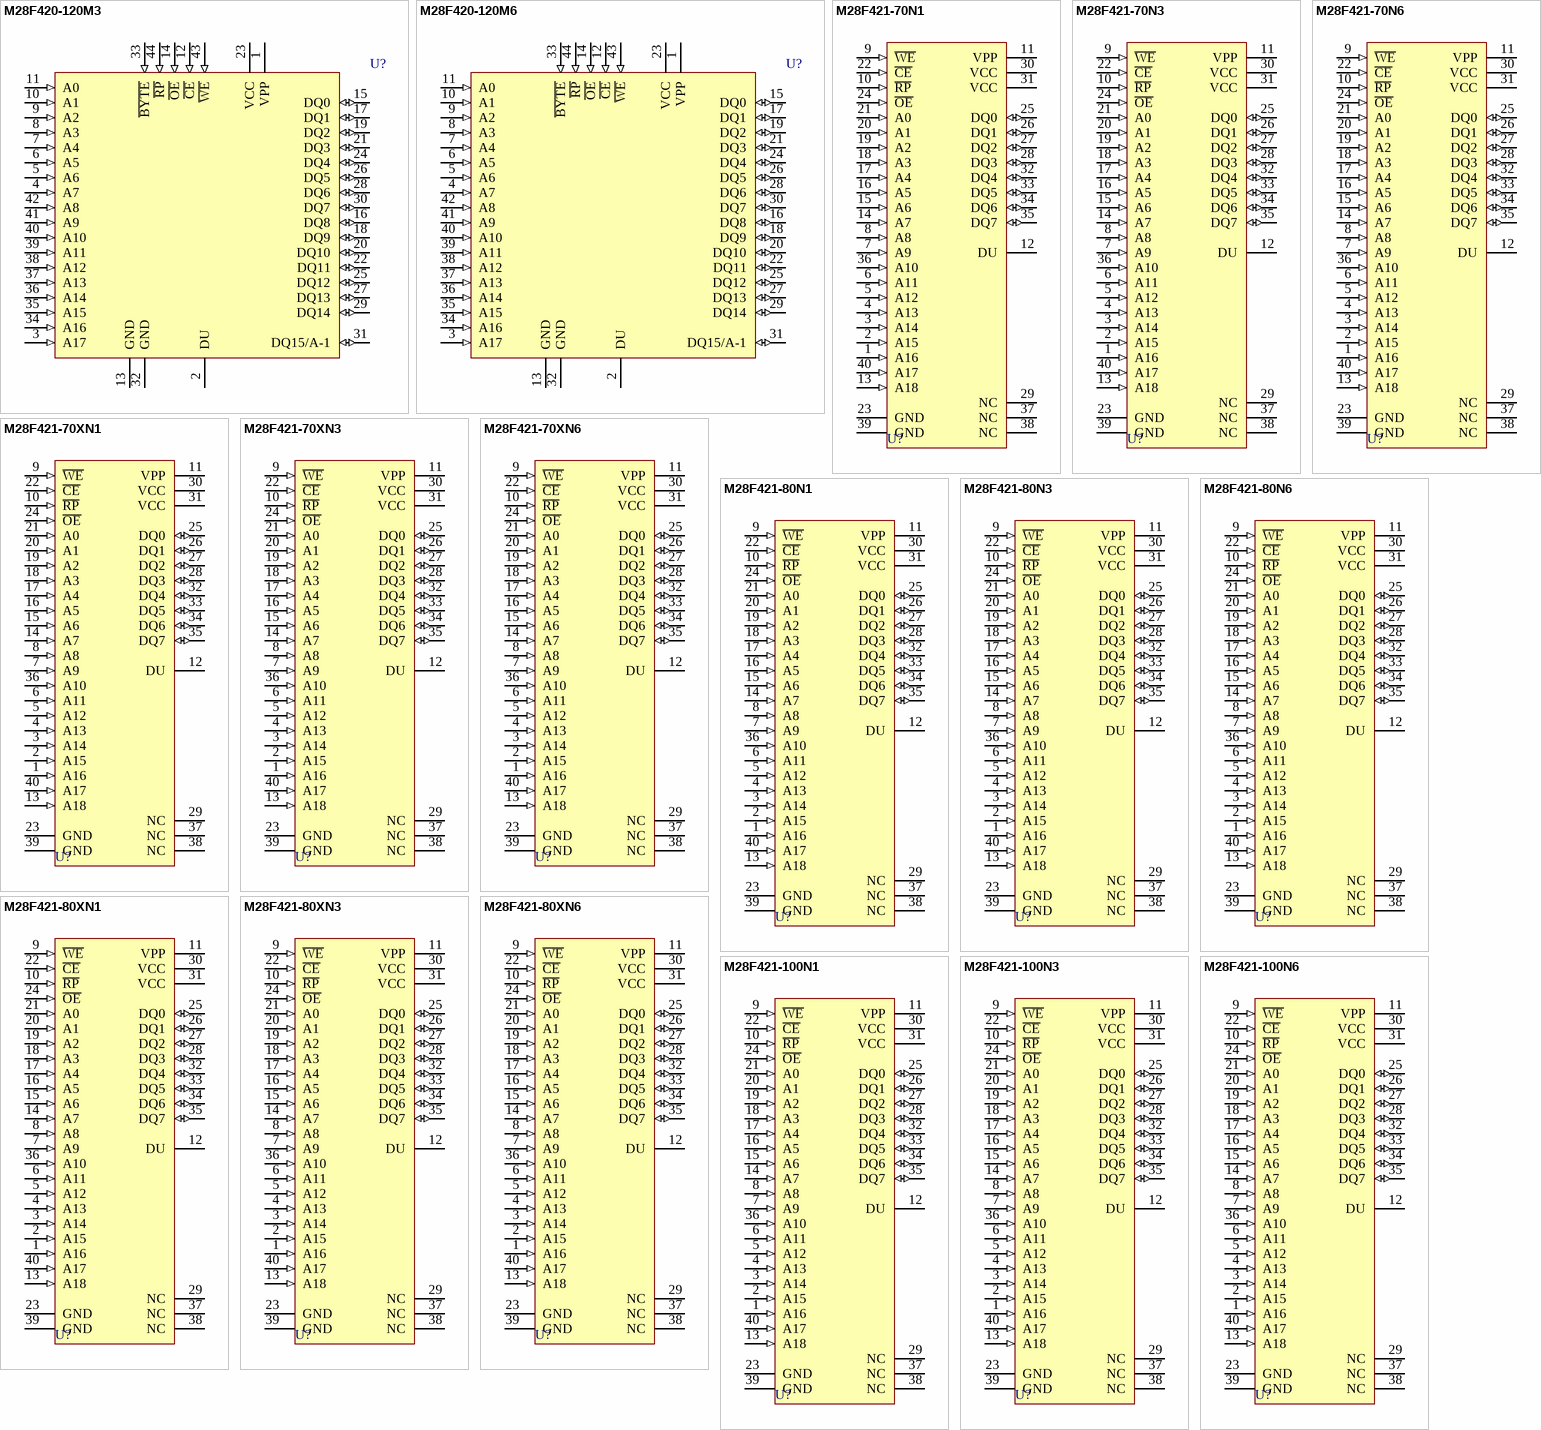
[diagram p39: symbols M28F420-120M3 to M28F421-100N6]

## M28F420-120M3
designator U?
4 Mbit (x8 or x16, Block Erase) Flash Memory; Note: Do Not Use pin number 2 (DU).; Published: 24-Aug-2001; LatestRevisionDate: 6-Jun-2005; LatestRevisionNote: Stylized 3D Model Added.; DatasheetDocument: Mar-1995; PackageReference: SO44; Publisher: Altium Limited; ComponentLink1Description: Manufacturer Link; ComponentLink1URL: http://www.st.com/
footprint SO44 (Small Outline, Plastic; 44 Leads; Body Width 13.3 mm; Pitch 1.27 mm)
3D model SO44 (Small Outline, Plastic; 44 Leads; Body Width 13.3 mm; Pitch 1.27 mm)
pins: 1 VPP (power), 2 DU, 3 A17 (in), 4 A7 (in), 5 A6 (in), 6 A5 (in), 7 A4 (in), 8 A3 (in), 9 A2 (in), 10 A1 (in), 11 A0 (in), 12 ~{CE} (in), 13 GND (power), 14 ~{OE} (in), 15 DQ0 (io), 16 DQ8 (io), 17 DQ1 (io), 18 DQ9 (io), 19 DQ2 (io), 20 DQ10 (io), 21 DQ3 (io), 22 DQ11 (io), 23 VCC (power), 24 DQ4 (io), 25 DQ12 (io), 26 DQ5 (io), 27 DQ13 (io), 28 DQ6 (io), 29 DQ14 (io), 30 DQ7 (io), 31 DQ15/A-1 (io), 32 GND (power), 33 ~{BYTE} (in), 34 A16 (in), 35 A15 (in), 36 A14 (in), 37 A13 (in), 38 A12 (in), 39 A11 (in), 40 A10 (in), 41 A9 (in), 42 A8 (in), 43 ~{WE} (in), 44 ~{RP} (in)

## M28F420-120M6
designator U?
4 Mbit (x8 or x16, Block Erase) Flash Memory; Note: Do Not Use pin number 2 (DU).; Published: 24-Aug-2001; LatestRevisionDate: 6-Jun-2005; LatestRevisionNote: Stylized 3D Model Added.; DatasheetDocument: Mar-1995; PackageReference: SO44; Publisher: Altium Limited; ComponentLink1Description: Manufacturer Link; ComponentLink1URL: http://www.st.com/
footprint SO44 (Small Outline, Plastic; 44 Leads; Body Width 13.3 mm; Pitch 1.27 mm)
3D model SO44 (Small Outline, Plastic; 44 Leads; Body Width 13.3 mm; Pitch 1.27 mm)
pins: 1 VPP (power), 2 DU, 3 A17 (in), 4 A7 (in), 5 A6 (in), 6 A5 (in), 7 A4 (in), 8 A3 (in), 9 A2 (in), 10 A1 (in), 11 A0 (in), 12 ~{CE} (in), 13 GND (power), 14 ~{OE} (in), 15 DQ0 (io), 16 DQ8 (io), 17 DQ1 (io), 18 DQ9 (io), 19 DQ2 (io), 20 DQ10 (io), 21 DQ3 (io), 22 DQ11 (io), 23 VCC (power), 24 DQ4 (io), 25 DQ12 (io), 26 DQ5 (io), 27 DQ13 (io), 28 DQ6 (io), 29 DQ14 (io), 30 DQ7 (io), 31 DQ15/A-1 (io), 32 GND (power), 33 ~{BYTE} (in), 34 A16 (in), 35 A15 (in), 36 A14 (in), 37 A13 (in), 38 A12 (in), 39 A11 (in), 40 A10 (in), 41 A9 (in), 42 A8 (in), 43 ~{WE} (in), 44 ~{RP} (in)

## M28F421-70N1
designator U?
4 Mbit (x8, Block Erase) Flash Memory; Note: Do Not Use pin number 12 (DU).; Published: 24-Aug-2001; LatestRevisionDate: 6-Jun-2005; LatestRevisionNote: Stylized 3D Model Added.; DatasheetDocument: Oct-1995; PackageDocument: Jul-1998; PackageReference: TSOP40A; Publisher: Altium Limited; Code_JEDEC: MO-142-CD; ComponentLink1Description: Manufacturer Link; ComponentLink1URL: http://www.st.com/
footprint TSOP40A (Shrink Small Outline, Plastic, Thin; 40 Leads; Body Width 18.4 mm; Pitch 0.5 mm)
3D model TSOP40A (Shrink Small Outline, Plastic, Thin; 40 Leads; Body Width 18.4 mm; Pitch 0.5 mm)
pins: 1 A16 (in), 2 A15 (in), 3 A14 (in), 4 A13 (in), 5 A12 (in), 6 A11 (in), 7 A9 (in), 8 A8 (in), 9 ~{WE} (in), 10 ~{RP} (in), 11 VPP (power), 12 DU, 13 A18 (in), 14 A7 (in), 15 A6 (in), 16 A5 (in), 17 A4 (in), 18 A3 (in), 19 A2 (in), 20 A1 (in), 21 A0 (in), 22 ~{CE} (in), 23 GND (power), 24 ~{OE} (in), 25 DQ0 (io), 26 DQ1 (io), 27 DQ2 (io), 28 DQ3 (io), 29 NC, 30 VCC (power), 31 VCC (power), 32 DQ4 (io), 33 DQ5 (io), 34 DQ6 (io), 35 DQ7 (io), 36 A10 (in), 37 NC, 38 NC, 39 GND (power), 40 A17 (in)

## M28F421-70N3
designator U?
4 Mbit (x8, Block Erase) Flash Memory; Note: Do Not Use pin number 12 (DU).; Published: 24-Aug-2001; LatestRevisionDate: 6-Jun-2005; LatestRevisionNote: Stylized 3D Model Added.; DatasheetDocument: Oct-1995; PackageDocument: Jul-1998; PackageReference: TSOP40A; Publisher: Altium Limited; Code_JEDEC: MO-142-CD; ComponentLink1Description: Manufacturer Link; ComponentLink1URL: http://www.st.com/
footprint TSOP40A (Shrink Small Outline, Plastic, Thin; 40 Leads; Body Width 18.4 mm; Pitch 0.5 mm)
3D model TSOP40A (Shrink Small Outline, Plastic, Thin; 40 Leads; Body Width 18.4 mm; Pitch 0.5 mm)
pins: 1 A16 (in), 2 A15 (in), 3 A14 (in), 4 A13 (in), 5 A12 (in), 6 A11 (in), 7 A9 (in), 8 A8 (in), 9 ~{WE} (in), 10 ~{RP} (in), 11 VPP (power), 12 DU, 13 A18 (in), 14 A7 (in), 15 A6 (in), 16 A5 (in), 17 A4 (in), 18 A3 (in), 19 A2 (in), 20 A1 (in), 21 A0 (in), 22 ~{CE} (in), 23 GND (power), 24 ~{OE} (in), 25 DQ0 (io), 26 DQ1 (io), 27 DQ2 (io), 28 DQ3 (io), 29 NC, 30 VCC (power), 31 VCC (power), 32 DQ4 (io), 33 DQ5 (io), 34 DQ6 (io), 35 DQ7 (io), 36 A10 (in), 37 NC, 38 NC, 39 GND (power), 40 A17 (in)

## M28F421-70N6
designator U?
4 Mbit (x8, Block Erase) Flash Memory; Note: Do Not Use pin number 12 (DU).; Published: 24-Aug-2001; LatestRevisionDate: 6-Jun-2005; LatestRevisionNote: Stylized 3D Model Added.; DatasheetDocument: Oct-1995; PackageDocument: Jul-1998; PackageReference: TSOP40A; Publisher: Altium Limited; Code_JEDEC: MO-142-CD; ComponentLink1Description: Manufacturer Link; ComponentLink1URL: http://www.st.com/
footprint TSOP40A (Shrink Small Outline, Plastic, Thin; 40 Leads; Body Width 18.4 mm; Pitch 0.5 mm)
3D model TSOP40A (Shrink Small Outline, Plastic, Thin; 40 Leads; Body Width 18.4 mm; Pitch 0.5 mm)
pins: 1 A16 (in), 2 A15 (in), 3 A14 (in), 4 A13 (in), 5 A12 (in), 6 A11 (in), 7 A9 (in), 8 A8 (in), 9 ~{WE} (in), 10 ~{RP} (in), 11 VPP (power), 12 DU, 13 A18 (in), 14 A7 (in), 15 A6 (in), 16 A5 (in), 17 A4 (in), 18 A3 (in), 19 A2 (in), 20 A1 (in), 21 A0 (in), 22 ~{CE} (in), 23 GND (power), 24 ~{OE} (in), 25 DQ0 (io), 26 DQ1 (io), 27 DQ2 (io), 28 DQ3 (io), 29 NC, 30 VCC (power), 31 VCC (power), 32 DQ4 (io), 33 DQ5 (io), 34 DQ6 (io), 35 DQ7 (io), 36 A10 (in), 37 NC, 38 NC, 39 GND (power), 40 A17 (in)

## M28F421-70XN1
designator U?
4 Mbit (x8, Block Erase) Flash Memory; Note: Do Not Use pin number 12 (DU).; Published: 24-Aug-2001; LatestRevisionDate: 6-Jun-2005; LatestRevisionNote: Stylized 3D Model Added.; DatasheetDocument: Oct-1995; PackageDocument: Jul-1998; PackageReference: TSOP40A; Publisher: Altium Limited; Code_JEDEC: MO-142-CD; ComponentLink1Description: Manufacturer Link; ComponentLink1URL: http://www.st.com/
footprint TSOP40A (Shrink Small Outline, Plastic, Thin; 40 Leads; Body Width 18.4 mm; Pitch 0.5 mm)
3D model TSOP40A (Shrink Small Outline, Plastic, Thin; 40 Leads; Body Width 18.4 mm; Pitch 0.5 mm)
pins: 1 A16 (in), 2 A15 (in), 3 A14 (in), 4 A13 (in), 5 A12 (in), 6 A11 (in), 7 A9 (in), 8 A8 (in), 9 ~{WE} (in), 10 ~{RP} (in), 11 VPP (power), 12 DU, 13 A18 (in), 14 A7 (in), 15 A6 (in), 16 A5 (in), 17 A4 (in), 18 A3 (in), 19 A2 (in), 20 A1 (in), 21 A0 (in), 22 ~{CE} (in), 23 GND (power), 24 ~{OE} (in), 25 DQ0 (io), 26 DQ1 (io), 27 DQ2 (io), 28 DQ3 (io), 29 NC, 30 VCC (power), 31 VCC (power), 32 DQ4 (io), 33 DQ5 (io), 34 DQ6 (io), 35 DQ7 (io), 36 A10 (in), 37 NC, 38 NC, 39 GND (power), 40 A17 (in)

## M28F421-70XN3
designator U?
4 Mbit (x8, Block Erase) Flash Memory; Note: Do Not Use pin number 12 (DU).; Published: 24-Aug-2001; LatestRevisionDate: 6-Jun-2005; LatestRevisionNote: Stylized 3D Model Added.; DatasheetDocument: Oct-1995; PackageDocument: Jul-1998; PackageReference: TSOP40A; Publisher: Altium Limited; Code_JEDEC: MO-142-CD; ComponentLink1Description: Manufacturer Link; ComponentLink1URL: http://www.st.com/
footprint TSOP40A (Shrink Small Outline, Plastic, Thin; 40 Leads; Body Width 18.4 mm; Pitch 0.5 mm)
3D model TSOP40A (Shrink Small Outline, Plastic, Thin; 40 Leads; Body Width 18.4 mm; Pitch 0.5 mm)
pins: 1 A16 (in), 2 A15 (in), 3 A14 (in), 4 A13 (in), 5 A12 (in), 6 A11 (in), 7 A9 (in), 8 A8 (in), 9 ~{WE} (in), 10 ~{RP} (in), 11 VPP (power), 12 DU, 13 A18 (in), 14 A7 (in), 15 A6 (in), 16 A5 (in), 17 A4 (in), 18 A3 (in), 19 A2 (in), 20 A1 (in), 21 A0 (in), 22 ~{CE} (in), 23 GND (power), 24 ~{OE} (in), 25 DQ0 (io), 26 DQ1 (io), 27 DQ2 (io), 28 DQ3 (io), 29 NC, 30 VCC (power), 31 VCC (power), 32 DQ4 (io), 33 DQ5 (io), 34 DQ6 (io), 35 DQ7 (io), 36 A10 (in), 37 NC, 38 NC, 39 GND (power), 40 A17 (in)

## M28F421-70XN6
designator U?
4 Mbit (x8, Block Erase) Flash Memory; Note: Do Not Use pin number 12 (DU).; Published: 24-Aug-2001; LatestRevisionDate: 6-Jun-2005; LatestRevisionNote: Stylized 3D Model Added.; DatasheetDocument: Oct-1995; PackageDocument: Jul-1998; PackageReference: TSOP40A; Publisher: Altium Limited; Code_JEDEC: MO-142-CD; ComponentLink1Description: Manufacturer Link; ComponentLink1URL: http://www.st.com/
footprint TSOP40A (Shrink Small Outline, Plastic, Thin; 40 Leads; Body Width 18.4 mm; Pitch 0.5 mm)
3D model TSOP40A (Shrink Small Outline, Plastic, Thin; 40 Leads; Body Width 18.4 mm; Pitch 0.5 mm)
pins: 1 A16 (in), 2 A15 (in), 3 A14 (in), 4 A13 (in), 5 A12 (in), 6 A11 (in), 7 A9 (in), 8 A8 (in), 9 ~{WE} (in), 10 ~{RP} (in), 11 VPP (power), 12 DU, 13 A18 (in), 14 A7 (in), 15 A6 (in), 16 A5 (in), 17 A4 (in), 18 A3 (in), 19 A2 (in), 20 A1 (in), 21 A0 (in), 22 ~{CE} (in), 23 GND (power), 24 ~{OE} (in), 25 DQ0 (io), 26 DQ1 (io), 27 DQ2 (io), 28 DQ3 (io), 29 NC, 30 VCC (power), 31 VCC (power), 32 DQ4 (io), 33 DQ5 (io), 34 DQ6 (io), 35 DQ7 (io), 36 A10 (in), 37 NC, 38 NC, 39 GND (power), 40 A17 (in)

## M28F421-80N1
designator U?
4 Mbit (x8, Block Erase) Flash Memory; Note: Do Not Use pin number 12 (DU).; Published: 24-Aug-2001; LatestRevisionDate: 6-Jun-2005; LatestRevisionNote: Stylized 3D Model Added.; DatasheetDocument: Oct-1995; PackageDocument: Jul-1998; PackageReference: TSOP40A; Publisher: Altium Limited; Code_JEDEC: MO-142-CD; ComponentLink1Description: Manufacturer Link; ComponentLink1URL: http://www.st.com/
footprint TSOP40A (Shrink Small Outline, Plastic, Thin; 40 Leads; Body Width 18.4 mm; Pitch 0.5 mm)
3D model TSOP40A (Shrink Small Outline, Plastic, Thin; 40 Leads; Body Width 18.4 mm; Pitch 0.5 mm)
pins: 1 A16 (in), 2 A15 (in), 3 A14 (in), 4 A13 (in), 5 A12 (in), 6 A11 (in), 7 A9 (in), 8 A8 (in), 9 ~{WE} (in), 10 ~{RP} (in), 11 VPP (power), 12 DU, 13 A18 (in), 14 A7 (in), 15 A6 (in), 16 A5 (in), 17 A4 (in), 18 A3 (in), 19 A2 (in), 20 A1 (in), 21 A0 (in), 22 ~{CE} (in), 23 GND (power), 24 ~{OE} (in), 25 DQ0 (io), 26 DQ1 (io), 27 DQ2 (io), 28 DQ3 (io), 29 NC, 30 VCC (power), 31 VCC (power), 32 DQ4 (io), 33 DQ5 (io), 34 DQ6 (io), 35 DQ7 (io), 36 A10 (in), 37 NC, 38 NC, 39 GND (power), 40 A17 (in)

## M28F421-80N3
designator U?
4 Mbit (x8, Block Erase) Flash Memory; Note: Do Not Use pin number 12 (DU).; Published: 24-Aug-2001; LatestRevisionDate: 6-Jun-2005; LatestRevisionNote: Stylized 3D Model Added.; DatasheetDocument: Oct-1995; PackageDocument: Jul-1998; PackageReference: TSOP40A; Publisher: Altium Limited; Code_JEDEC: MO-142-CD; ComponentLink1Description: Manufacturer Link; ComponentLink1URL: http://www.st.com/
footprint TSOP40A (Shrink Small Outline, Plastic, Thin; 40 Leads; Body Width 18.4 mm; Pitch 0.5 mm)
3D model TSOP40A (Shrink Small Outline, Plastic, Thin; 40 Leads; Body Width 18.4 mm; Pitch 0.5 mm)
pins: 1 A16 (in), 2 A15 (in), 3 A14 (in), 4 A13 (in), 5 A12 (in), 6 A11 (in), 7 A9 (in), 8 A8 (in), 9 ~{WE} (in), 10 ~{RP} (in), 11 VPP (power), 12 DU, 13 A18 (in), 14 A7 (in), 15 A6 (in), 16 A5 (in), 17 A4 (in), 18 A3 (in), 19 A2 (in), 20 A1 (in), 21 A0 (in), 22 ~{CE} (in), 23 GND (power), 24 ~{OE} (in), 25 DQ0 (io), 26 DQ1 (io), 27 DQ2 (io), 28 DQ3 (io), 29 NC, 30 VCC (power), 31 VCC (power), 32 DQ4 (io), 33 DQ5 (io), 34 DQ6 (io), 35 DQ7 (io), 36 A10 (in), 37 NC, 38 NC, 39 GND (power), 40 A17 (in)

## M28F421-80N6
designator U?
4 Mbit (x8, Block Erase) Flash Memory; Note: Do Not Use pin number 12 (DU).; Published: 24-Aug-2001; LatestRevisionDate: 6-Jun-2005; LatestRevisionNote: Stylized 3D Model Added.; DatasheetDocument: Oct-1995; PackageDocument: Jul-1998; PackageReference: TSOP40A; Publisher: Altium Limited; Code_JEDEC: MO-142-CD; ComponentLink1Description: Manufacturer Link; ComponentLink1URL: http://www.st.com/
footprint TSOP40A (Shrink Small Outline, Plastic, Thin; 40 Leads; Body Width 18.4 mm; Pitch 0.5 mm)
3D model TSOP40A (Shrink Small Outline, Plastic, Thin; 40 Leads; Body Width 18.4 mm; Pitch 0.5 mm)
pins: 1 A16 (in), 2 A15 (in), 3 A14 (in), 4 A13 (in), 5 A12 (in), 6 A11 (in), 7 A9 (in), 8 A8 (in), 9 ~{WE} (in), 10 ~{RP} (in), 11 VPP (power), 12 DU, 13 A18 (in), 14 A7 (in), 15 A6 (in), 16 A5 (in), 17 A4 (in), 18 A3 (in), 19 A2 (in), 20 A1 (in), 21 A0 (in), 22 ~{CE} (in), 23 GND (power), 24 ~{OE} (in), 25 DQ0 (io), 26 DQ1 (io), 27 DQ2 (io), 28 DQ3 (io), 29 NC, 30 VCC (power), 31 VCC (power), 32 DQ4 (io), 33 DQ5 (io), 34 DQ6 (io), 35 DQ7 (io), 36 A10 (in), 37 NC, 38 NC, 39 GND (power), 40 A17 (in)

## M28F421-80XN1
designator U?
4 Mbit (x8, Block Erase) Flash Memory; Note: Do Not Use pin number 12 (DU).; Published: 24-Aug-2001; LatestRevisionDate: 6-Jun-2005; LatestRevisionNote: Stylized 3D Model Added.; DatasheetDocument: Oct-1995; PackageDocument: Jul-1998; PackageReference: TSOP40A; Publisher: Altium Limited; Code_JEDEC: MO-142-CD; ComponentLink1Description: Manufacturer Link; ComponentLink1URL: http://www.st.com/
footprint TSOP40A (Shrink Small Outline, Plastic, Thin; 40 Leads; Body Width 18.4 mm; Pitch 0.5 mm)
3D model TSOP40A (Shrink Small Outline, Plastic, Thin; 40 Leads; Body Width 18.4 mm; Pitch 0.5 mm)
pins: 1 A16 (in), 2 A15 (in), 3 A14 (in), 4 A13 (in), 5 A12 (in), 6 A11 (in), 7 A9 (in), 8 A8 (in), 9 ~{WE} (in), 10 ~{RP} (in), 11 VPP (power), 12 DU, 13 A18 (in), 14 A7 (in), 15 A6 (in), 16 A5 (in), 17 A4 (in), 18 A3 (in), 19 A2 (in), 20 A1 (in), 21 A0 (in), 22 ~{CE} (in), 23 GND (power), 24 ~{OE} (in), 25 DQ0 (io), 26 DQ1 (io), 27 DQ2 (io), 28 DQ3 (io), 29 NC, 30 VCC (power), 31 VCC (power), 32 DQ4 (io), 33 DQ5 (io), 34 DQ6 (io), 35 DQ7 (io), 36 A10 (in), 37 NC, 38 NC, 39 GND (power), 40 A17 (in)

## M28F421-80XN3
designator U?
4 Mbit (x8, Block Erase) Flash Memory; Note: Do Not Use pin number 12 (DU).; Published: 24-Aug-2001; LatestRevisionDate: 6-Jun-2005; LatestRevisionNote: Stylized 3D Model Added.; DatasheetDocument: Oct-1995; PackageDocument: Jul-1998; PackageReference: TSOP40A; Publisher: Altium Limited; Code_JEDEC: MO-142-CD; ComponentLink1Description: Manufacturer Link; ComponentLink1URL: http://www.st.com/
footprint TSOP40A (Shrink Small Outline, Plastic, Thin; 40 Leads; Body Width 18.4 mm; Pitch 0.5 mm)
3D model TSOP40A (Shrink Small Outline, Plastic, Thin; 40 Leads; Body Width 18.4 mm; Pitch 0.5 mm)
pins: 1 A16 (in), 2 A15 (in), 3 A14 (in), 4 A13 (in), 5 A12 (in), 6 A11 (in), 7 A9 (in), 8 A8 (in), 9 ~{WE} (in), 10 ~{RP} (in), 11 VPP (power), 12 DU, 13 A18 (in), 14 A7 (in), 15 A6 (in), 16 A5 (in), 17 A4 (in), 18 A3 (in), 19 A2 (in), 20 A1 (in), 21 A0 (in), 22 ~{CE} (in), 23 GND (power), 24 ~{OE} (in), 25 DQ0 (io), 26 DQ1 (io), 27 DQ2 (io), 28 DQ3 (io), 29 NC, 30 VCC (power), 31 VCC (power), 32 DQ4 (io), 33 DQ5 (io), 34 DQ6 (io), 35 DQ7 (io), 36 A10 (in), 37 NC, 38 NC, 39 GND (power), 40 A17 (in)

## M28F421-80XN6
designator U?
4 Mbit (x8, Block Erase) Flash Memory; Note: Do Not Use pin number 12 (DU).; Published: 24-Aug-2001; LatestRevisionDate: 6-Jun-2005; LatestRevisionNote: Stylized 3D Model Added.; DatasheetDocument: Oct-1995; PackageDocument: Jul-1998; PackageReference: TSOP40A; Publisher: Altium Limited; Code_JEDEC: MO-142-CD; ComponentLink1Description: Manufacturer Link; ComponentLink1URL: http://www.st.com/
footprint TSOP40A (Shrink Small Outline, Plastic, Thin; 40 Leads; Body Width 18.4 mm; Pitch 0.5 mm)
3D model TSOP40A (Shrink Small Outline, Plastic, Thin; 40 Leads; Body Width 18.4 mm; Pitch 0.5 mm)
pins: 1 A16 (in), 2 A15 (in), 3 A14 (in), 4 A13 (in), 5 A12 (in), 6 A11 (in), 7 A9 (in), 8 A8 (in), 9 ~{WE} (in), 10 ~{RP} (in), 11 VPP (power), 12 DU, 13 A18 (in), 14 A7 (in), 15 A6 (in), 16 A5 (in), 17 A4 (in), 18 A3 (in), 19 A2 (in), 20 A1 (in), 21 A0 (in), 22 ~{CE} (in), 23 GND (power), 24 ~{OE} (in), 25 DQ0 (io), 26 DQ1 (io), 27 DQ2 (io), 28 DQ3 (io), 29 NC, 30 VCC (power), 31 VCC (power), 32 DQ4 (io), 33 DQ5 (io), 34 DQ6 (io), 35 DQ7 (io), 36 A10 (in), 37 NC, 38 NC, 39 GND (power), 40 A17 (in)

## M28F421-100N1
designator U?
4 Mbit (x8, Block Erase) Flash Memory; Note: Do Not Use pin number 12 (DU).; Published: 24-Aug-2001; LatestRevisionDate: 6-Jun-2005; LatestRevisionNote: Stylized 3D Model Added.; DatasheetDocument: Oct-1995; PackageDocument: Jul-1998; PackageReference: TSOP40A; Publisher: Altium Limited; Code_JEDEC: MO-142-CD; ComponentLink1Description: Manufacturer Link; ComponentLink1URL: http://www.st.com/
footprint TSOP40A (Shrink Small Outline, Plastic, Thin; 40 Leads; Body Width 18.4 mm; Pitch 0.5 mm)
3D model TSOP40A (Shrink Small Outline, Plastic, Thin; 40 Leads; Body Width 18.4 mm; Pitch 0.5 mm)
pins: 1 A16 (in), 2 A15 (in), 3 A14 (in), 4 A13 (in), 5 A12 (in), 6 A11 (in), 7 A9 (in), 8 A8 (in), 9 ~{WE} (in), 10 ~{RP} (in), 11 VPP (power), 12 DU, 13 A18 (in), 14 A7 (in), 15 A6 (in), 16 A5 (in), 17 A4 (in), 18 A3 (in), 19 A2 (in), 20 A1 (in), 21 A0 (in), 22 ~{CE} (in), 23 GND (power), 24 ~{OE} (in), 25 DQ0 (io), 26 DQ1 (io), 27 DQ2 (io), 28 DQ3 (io), 29 NC, 30 VCC (power), 31 VCC (power), 32 DQ4 (io), 33 DQ5 (io), 34 DQ6 (io), 35 DQ7 (io), 36 A10 (in), 37 NC, 38 NC, 39 GND (power), 40 A17 (in)

## M28F421-100N3
designator U?
4 Mbit (x8, Block Erase) Flash Memory; Note: Do Not Use pin number 12 (DU).; Published: 24-Aug-2001; LatestRevisionDate: 6-Jun-2005; LatestRevisionNote: Stylized 3D Model Added.; DatasheetDocument: Oct-1995; PackageDocument: Jul-1998; PackageReference: TSOP40A; Publisher: Altium Limited; Code_JEDEC: MO-142-CD; ComponentLink1Description: Manufacturer Link; ComponentLink1URL: http://www.st.com/
footprint TSOP40A (Shrink Small Outline, Plastic, Thin; 40 Leads; Body Width 18.4 mm; Pitch 0.5 mm)
3D model TSOP40A (Shrink Small Outline, Plastic, Thin; 40 Leads; Body Width 18.4 mm; Pitch 0.5 mm)
pins: 1 A16 (in), 2 A15 (in), 3 A14 (in), 4 A13 (in), 5 A12 (in), 6 A11 (in), 7 A9 (in), 8 A8 (in), 9 ~{WE} (in), 10 ~{RP} (in), 11 VPP (power), 12 DU, 13 A18 (in), 14 A7 (in), 15 A6 (in), 16 A5 (in), 17 A4 (in), 18 A3 (in), 19 A2 (in), 20 A1 (in), 21 A0 (in), 22 ~{CE} (in), 23 GND (power), 24 ~{OE} (in), 25 DQ0 (io), 26 DQ1 (io), 27 DQ2 (io), 28 DQ3 (io), 29 NC, 30 VCC (power), 31 VCC (power), 32 DQ4 (io), 33 DQ5 (io), 34 DQ6 (io), 35 DQ7 (io), 36 A10 (in), 37 NC, 38 NC, 39 GND (power), 40 A17 (in)

## M28F421-100N6
designator U?
4 Mbit (x8, Block Erase) Flash Memory; Note: Do Not Use pin number 12 (DU).; Published: 24-Aug-2001; LatestRevisionDate: 6-Jun-2005; LatestRevisionNote: Stylized 3D Model Added.; DatasheetDocument: Oct-1995; PackageDocument: Jul-1998; PackageReference: TSOP40A; Publisher: Altium Limited; Code_JEDEC: MO-142-CD; ComponentLink1Description: Manufacturer Link; ComponentLink1URL: http://www.st.com/
footprint TSOP40A (Shrink Small Outline, Plastic, Thin; 40 Leads; Body Width 18.4 mm; Pitch 0.5 mm)
3D model TSOP40A (Shrink Small Outline, Plastic, Thin; 40 Leads; Body Width 18.4 mm; Pitch 0.5 mm)
pins: 1 A16 (in), 2 A15 (in), 3 A14 (in), 4 A13 (in), 5 A12 (in), 6 A11 (in), 7 A9 (in), 8 A8 (in), 9 ~{WE} (in), 10 ~{RP} (in), 11 VPP (power), 12 DU, 13 A18 (in), 14 A7 (in), 15 A6 (in), 16 A5 (in), 17 A4 (in), 18 A3 (in), 19 A2 (in), 20 A1 (in), 21 A0 (in), 22 ~{CE} (in), 23 GND (power), 24 ~{OE} (in), 25 DQ0 (io), 26 DQ1 (io), 27 DQ2 (io), 28 DQ3 (io), 29 NC, 30 VCC (power), 31 VCC (power), 32 DQ4 (io), 33 DQ5 (io), 34 DQ6 (io), 35 DQ7 (io), 36 A10 (in), 37 NC, 38 NC, 39 GND (power), 40 A17 (in)

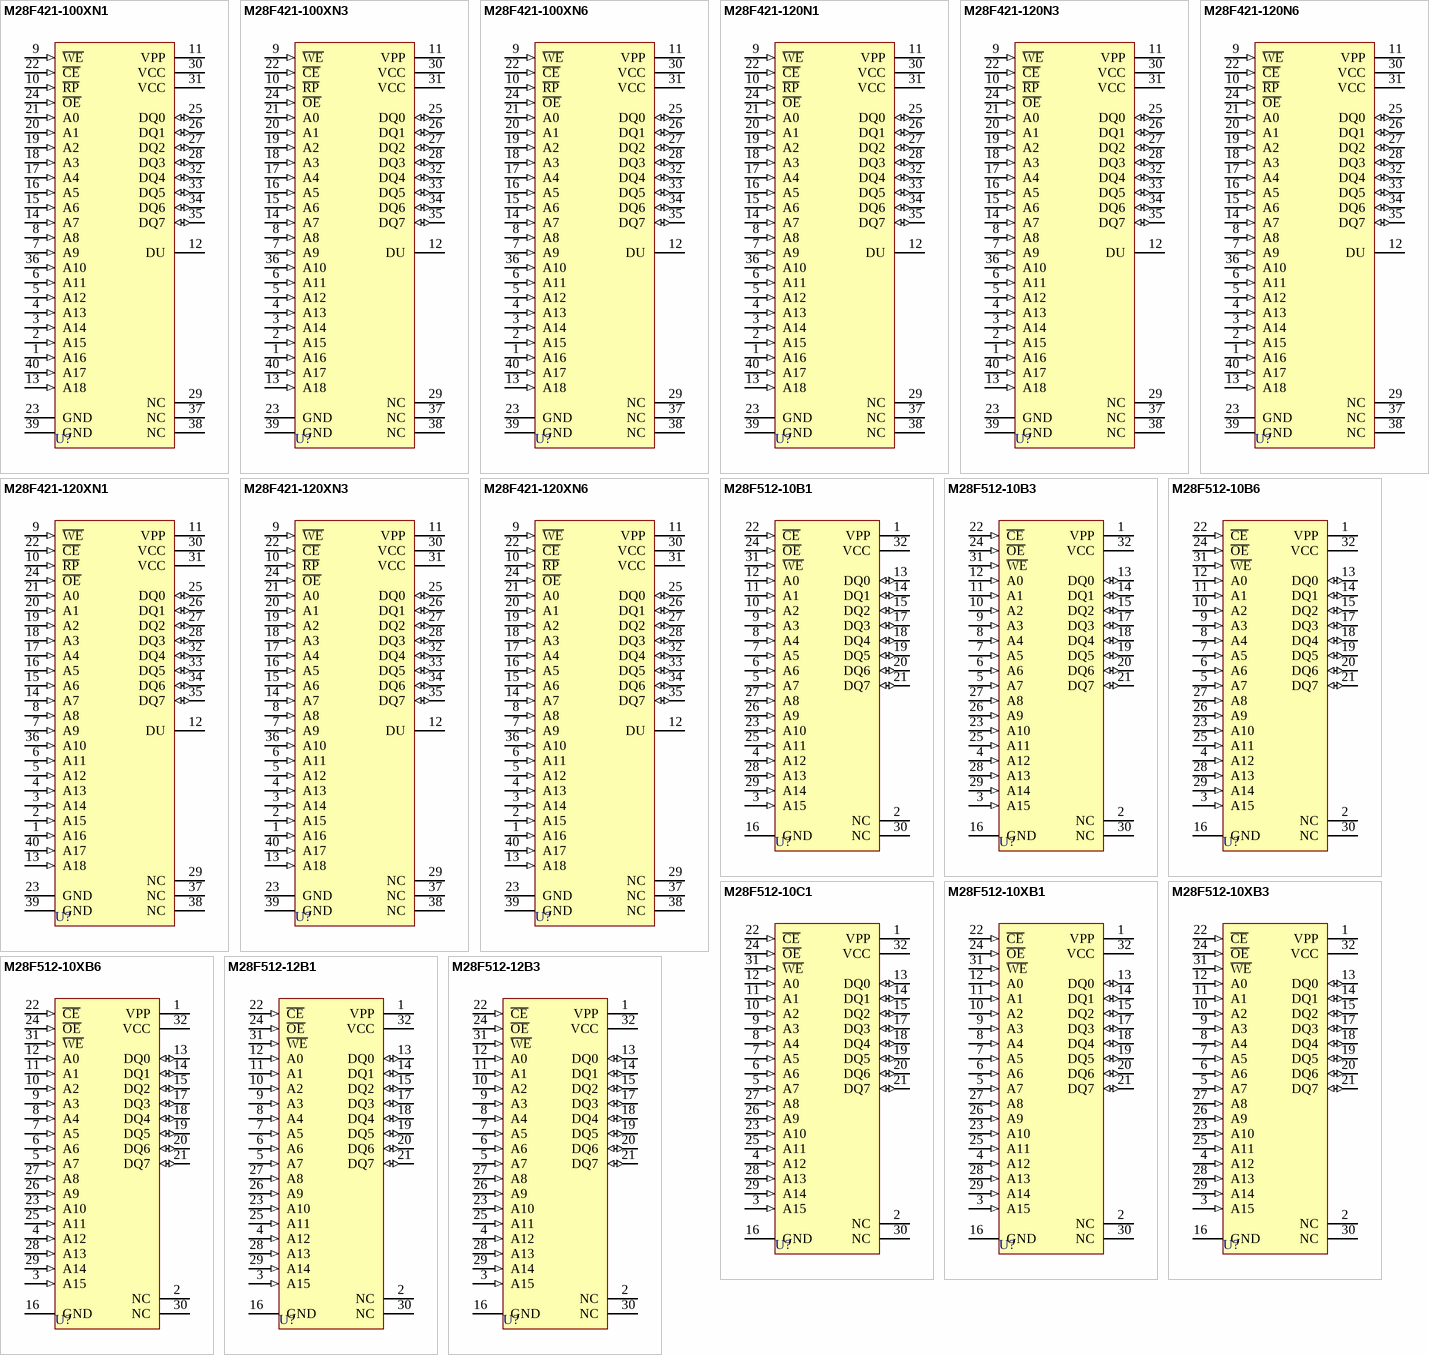
[diagram p40: symbols M28F421-100XN1 to M28F512-12B3]

## M28F421-100XN1
designator U?
4 Mbit (x8, Block Erase) Flash Memory; Note: Do Not Use pin number 12 (DU).; Published: 24-Aug-2001; LatestRevisionDate: 6-Jun-2005; LatestRevisionNote: Stylized 3D Model Added.; DatasheetDocument: Oct-1995; PackageDocument: Jul-1998; PackageReference: TSOP40A; Publisher: Altium Limited; Code_JEDEC: MO-142-CD; ComponentLink1Description: Manufacturer Link; ComponentLink1URL: http://www.st.com/
footprint TSOP40A (Shrink Small Outline, Plastic, Thin; 40 Leads; Body Width 18.4 mm; Pitch 0.5 mm)
3D model TSOP40A (Shrink Small Outline, Plastic, Thin; 40 Leads; Body Width 18.4 mm; Pitch 0.5 mm)
pins: 1 A16 (in), 2 A15 (in), 3 A14 (in), 4 A13 (in), 5 A12 (in), 6 A11 (in), 7 A9 (in), 8 A8 (in), 9 ~{WE} (in), 10 ~{RP} (in), 11 VPP (power), 12 DU, 13 A18 (in), 14 A7 (in), 15 A6 (in), 16 A5 (in), 17 A4 (in), 18 A3 (in), 19 A2 (in), 20 A1 (in), 21 A0 (in), 22 ~{CE} (in), 23 GND (power), 24 ~{OE} (in), 25 DQ0 (io), 26 DQ1 (io), 27 DQ2 (io), 28 DQ3 (io), 29 NC, 30 VCC (power), 31 VCC (power), 32 DQ4 (io), 33 DQ5 (io), 34 DQ6 (io), 35 DQ7 (io), 36 A10 (in), 37 NC, 38 NC, 39 GND (power), 40 A17 (in)

## M28F421-100XN3
designator U?
4 Mbit (x8, Block Erase) Flash Memory; Note: Do Not Use pin number 12 (DU).; Published: 24-Aug-2001; LatestRevisionDate: 6-Jun-2005; LatestRevisionNote: Stylized 3D Model Added.; DatasheetDocument: Oct-1995; PackageDocument: Jul-1998; PackageReference: TSOP40A; Publisher: Altium Limited; Code_JEDEC: MO-142-CD; ComponentLink1Description: Manufacturer Link; ComponentLink1URL: http://www.st.com/
footprint TSOP40A (Shrink Small Outline, Plastic, Thin; 40 Leads; Body Width 18.4 mm; Pitch 0.5 mm)
3D model TSOP40A (Shrink Small Outline, Plastic, Thin; 40 Leads; Body Width 18.4 mm; Pitch 0.5 mm)
pins: 1 A16 (in), 2 A15 (in), 3 A14 (in), 4 A13 (in), 5 A12 (in), 6 A11 (in), 7 A9 (in), 8 A8 (in), 9 ~{WE} (in), 10 ~{RP} (in), 11 VPP (power), 12 DU, 13 A18 (in), 14 A7 (in), 15 A6 (in), 16 A5 (in), 17 A4 (in), 18 A3 (in), 19 A2 (in), 20 A1 (in), 21 A0 (in), 22 ~{CE} (in), 23 GND (power), 24 ~{OE} (in), 25 DQ0 (io), 26 DQ1 (io), 27 DQ2 (io), 28 DQ3 (io), 29 NC, 30 VCC (power), 31 VCC (power), 32 DQ4 (io), 33 DQ5 (io), 34 DQ6 (io), 35 DQ7 (io), 36 A10 (in), 37 NC, 38 NC, 39 GND (power), 40 A17 (in)